# EAGLE library part STM32F0_LQFP64 (library smarttle)
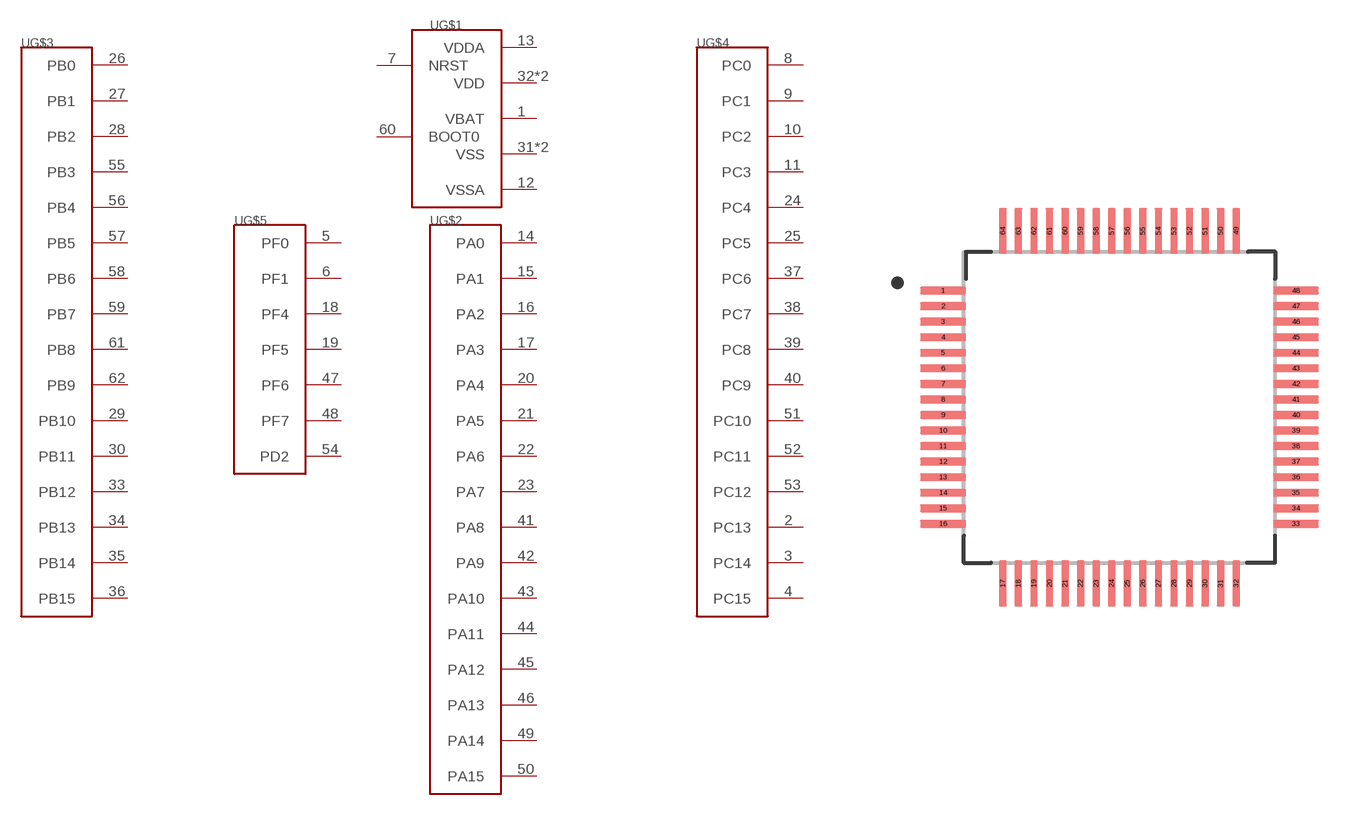
[diagram p0: symbol with the pads of QFP50P1200X1200X160-64N; footprint QFP50P1200X1200X160-64N]

Designator prefix U; gates G$1=STM32_PWR G$2=STM32_PORTA G$3=STM32_PORTB G$4=STM32_PORTC G$5=STM32_PORTF

## STM32F0_LQFP64  [QFP50P1200X1200X160-64N]
1  G$1:VBAT
2  G$4:PC13
3  G$4:PC14
4  G$4:PC15
5  G$5:PF0
6  G$5:PF1
7  G$1:NRST
8  G$4:PC0
9  G$4:PC1
10  G$4:PC2
11  G$4:PC3
12  G$1:VSSA
13  G$1:VDDA
14  G$2:PA0
15  G$2:PA1
16  G$2:PA2
17  G$2:PA3
18  G$5:PF4
19  G$5:PF5
20  G$2:PA4
21  G$2:PA5
22  G$2:PA6
23  G$2:PA7
24  G$4:PC4
25  G$4:PC5
26  G$3:PB0
27  G$3:PB1
28  G$3:PB2
29  G$3:PB10
30  G$3:PB11
31  G$1:VSS
32  G$1:VDD
33  G$3:PB12
34  G$3:PB13
35  G$3:PB14
36  G$3:PB15
37  G$4:PC6
38  G$4:PC7
39  G$4:PC8
40  G$4:PC9
41  G$2:PA8
42  G$2:PA9
43  G$2:PA10
44  G$2:PA11
45  G$2:PA12
46  G$2:PA13
47  G$5:PF6
48  G$5:PF7
49  G$2:PA14
50  G$2:PA15
51  G$4:PC10
52  G$4:PC11
53  G$4:PC12
54  G$5:PD2
55  G$3:PB3
56  G$3:PB4
57  G$3:PB5
58  G$3:PB6
59  G$3:PB7
60  G$1:BOOT0
61  G$3:PB8
62  G$3:PB9
63  G$1:VSS
64  G$1:VDD

## Footprint QFP50P1200X1200X160-64N (pad centres in mm)
smd 1.47 x 0.25: 1 -5.67,3.75; 2 -5.67,3.25; 3 -5.67,2.75; 4 -5.67,2.25; 5 -5.67,1.75; 6 -5.67,1.25; 7 -5.67,0.75; 8 -5.67,0.25; 9 -5.67,-0.25; 10 -5.67,-0.75; 11 -5.67,-1.25; 12 -5.67,-1.75; 13 -5.67,-2.25; 14 -5.67,-2.75; 15 -5.67,-3.25; 16 -5.67,-3.75; 33 5.67,-3.75; 34 5.67,-3.25; 35 5.67,-2.75; 36 5.67,-2.25; 37 5.67,-1.75; 38 5.67,-1.25; 39 5.67,-0.75; 40 5.67,-0.25; 41 5.67,0.25; 42 5.67,0.75; 43 5.67,1.25; 44 5.67,1.75; 45 5.67,2.25; 46 5.67,2.75; 47 5.67,3.25; 48 5.67,3.75
smd 0.25 x 1.47: 17 -3.75,-5.67; 18 -3.25,-5.67; 19 -2.75,-5.67; 20 -2.25,-5.67; 21 -1.75,-5.67; 22 -1.25,-5.67; 23 -0.75,-5.67; 24 -0.25,-5.67; 25 0.25,-5.67; 26 0.75,-5.67; 27 1.25,-5.67; 28 1.75,-5.67; 29 2.25,-5.67; 30 2.75,-5.67; 31 3.25,-5.67; 32 3.75,-5.67; 49 3.75,5.67; 50 3.25,5.67; 51 2.75,5.67; 52 2.25,5.67; 53 1.75,5.67; 54 1.25,5.67; 55 0.75,5.67; 56 0.25,5.67; 57 -0.25,5.67; 58 -0.75,5.67; 59 -1.25,5.67; 60 -1.75,5.67; 61 -2.25,5.67; 62 -2.75,5.67; 63 -3.25,5.67; 64 -3.75,5.67